# Altium integrated library Linear Technology Power Management Switching Regulator LT1074-LT8705.IntLib: 2252 symbols (part 37 of 148)
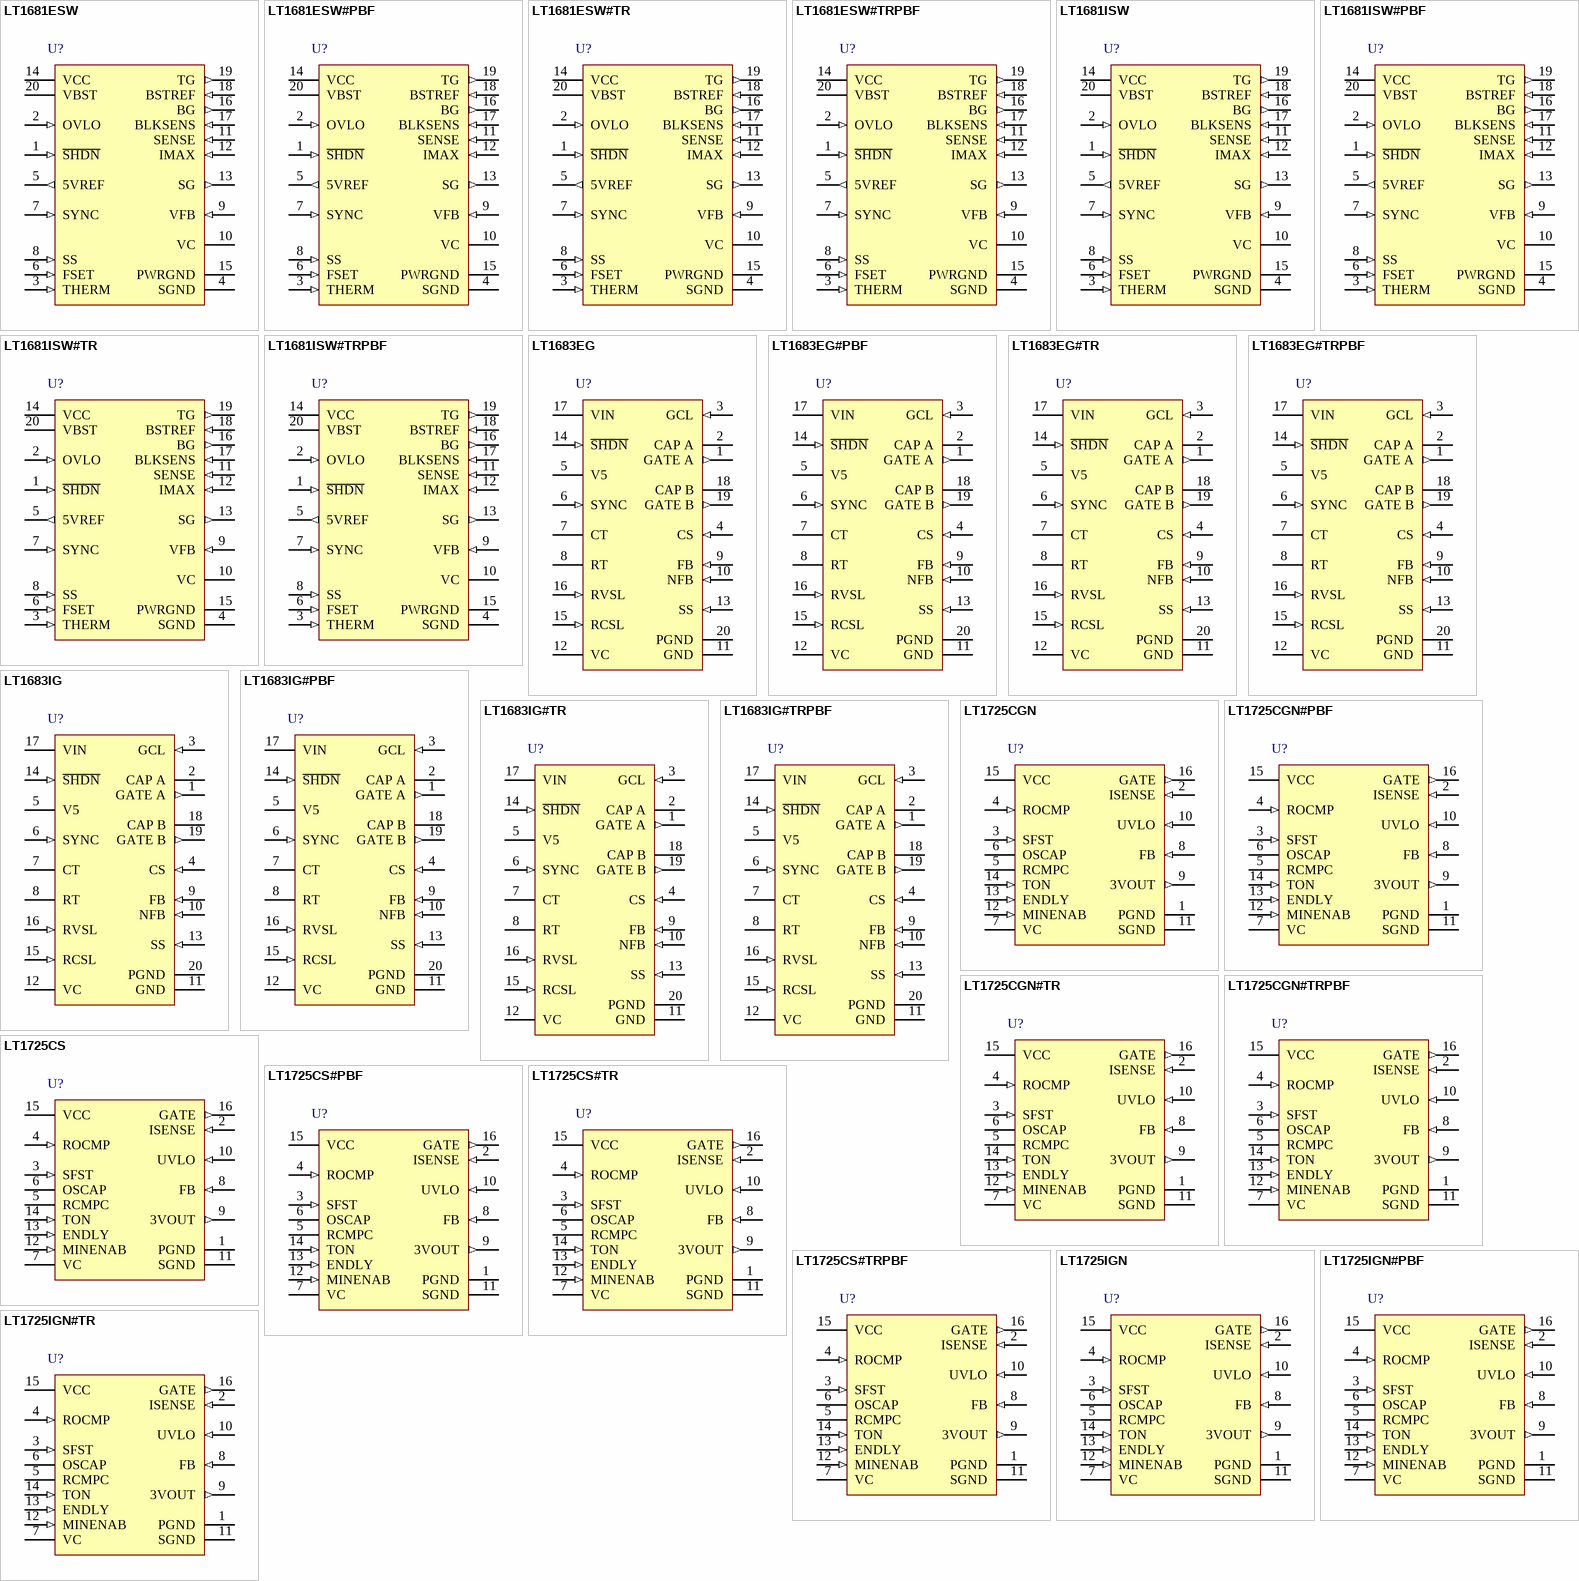
[diagram p107: symbols LT1681ESW to LT1725IGN#TR]

## LT1725CGN#TRPBF
designator U?
General Purpose Isolated Flyback Controller, 16-pin SOP (GN-16), 0 to 100 degC, Pb-Free, Tape and Reel; Manufacturer: Linear Technology; PartNumber: LT1725CGN#TRPBF; Number of Outputs: 1; DatasheetVersion: Rev. A; PackageVersion: Rev. B, 03/2012; PackageReference: GN-16; PackageDescription: 16-Pin Plastic SSOP, Body 4.9 x 3.9 mm, Pitch 0.635 mm; Supplier 1: Digi-Key; Supplier Part Number 1: LT1725CGN#TRPBF-ND; Packing: Tape and Reel; RoHS: TRUE; Mounting Technology: Surface Mount; ComponentLink1Description: Manufacturer URL; ComponentLink1URL: http://www.linear.com/; ComponentLink2Description: Datasheet; ComponentLink2URL: http://cds.linear.com/docs/en/datasheet/1725fa.pdf; ComponentLink3Description: Package Specification; ComponentLink3URL: http://cds.linear.com/docs/en/packaging/05081641_B_GN16.pdf
footprint LT-GN-16_N (SOP, 16-Leads, Body 5x4mm, Pitch 0.635mm, IPC Medium Density)
footprint LT-GN-16_L (SOP, 16-Leads, Body 5x4mm, Pitch 0.635mm, IPC High Density)
footprint LT-GN-16_M (SOP, 16-Leads, Body 5x4mm, Pitch 0.635mm, IPC Low Density)
pins: 1 PGND (power) "The power ground pin carries the GATE node discharge current. This is typically a current spike of several hundred mA with a duration of tens of nanoseconds. It should be connected directly to a good quality ground plane.", 2 ISENSE (in) "Pin to measure switch current with external sense resistor. The sense resistor should be of a noninductive construction as high speed performance is essential. Proper grounding technique is also required to avoid distortion (See Datasheet)", 3 SFST (in) "Pin for optional external capacitor to effect soft-start function. See Applications Information for details.", 4 ROCMP (in) "Input pin for optional external load compensation resistor. Use of this pin allows nominal compensation for nonzero output impedance in the power transformer secondary circuit, including secondary winding impedance, output (See Datasheet)", 5 RCMPC "Pin for external filter capacitor for optional load compensation function. A common 0.1uF ceramic capacitor will suffice for most applications. See Applications Information for further details.", 6 OSCAP "Pin for external timing capacitor to set oscillator switching frequency. See Applications Information for details.", 7 VC "This is the control voltage pin which is the output of the feedback amplifier and the input of the current comparator. Frequency compensation of the overall loop is effected in most cases by placing a capacitor between this (See Datasheet)", 8 FB (in) "Input pin for external “feedback” resistor divider. The ratio of this divider, times the internal bandgap (VBG) reference, times the effective output tothird winding transformer turns ratio is the primary determinant(See Datasheet)", 9 3VOUT (out) "Output pin for nominal 3V reference. This facilitates various user applications. This node is internally current limited for protection and is intended to drive either moderate capacitive loads of several hundred pF or less, (See Datasheet)", 10 UVLO (in), 11 SGND (power) "The signal ground pin is a clean ground. The internal reference, oscillator and feedback amplifier are referred to it. Keep the ground path connection to the FB pin, OSCAP capacitor and the VC compensation capacitor free of (See Datasheet)", 12 MINENAB (in) "Pin for external programming resistor to set minimum enable time. See Applications Information for details.", 13 ENDLY (in) "Pin for external programming resistor to set enable delay time. See Applications Information for details.", 14 TON (in) "Pin for external programming resistor to set switch minimum on time. See Applications Information for details.", 15 VCC (power), 16 GATE (out) "This is the gate drive to the external power MOSFET switch and has large dynamic currents flowing through it. Keep the trace to the MOSFET as short as possible to minimize electromagnetic radiation and voltage spikes. A (See Datasheet)"

## LT1725CS
designator U?
General Purpose Isolated Flyback Controller, 16-pin SOP (S-16), 0 to 100 degC; Manufacturer: Linear Technology; PartNumber: LT1725CS; Number of Outputs: 1; DatasheetVersion: Rev. A; PackageVersion: Rev. G, 05/2012; PackageReference: S-16; PackageDescription: 16-Pin Plastic Small Outline, Body 9.9 x 3.9 mm, Pitch 1.27 mm; Supplier 1: Digi-Key; Supplier Part Number 1: LT1725CS-ND; RoHS: FALSE; Mounting Technology: Surface Mount; ComponentLink1Description: Manufacturer URL; ComponentLink1URL: http://www.linear.com/; ComponentLink2Description: Datasheet; ComponentLink2URL: http://cds.linear.com/docs/en/datasheet/1725fa.pdf; ComponentLink3Description: Package Specification; ComponentLink3URL: http://cds.linear.com/docs/en/packaging/S16%2005-08-1610%20Rev%20G.pdf
footprint LT-S-16_N (SOP, 16-Leads, Body 10x4mm, Pitch 1.27mm, IPC Medium Density)
footprint LT-S-16_L (SOP, 16-Leads, Body 10x4mm, Pitch 1.27mm, IPC High Density)
footprint LT-S-16_M (SOP, 16-Leads, Body 10x4mm, Pitch 1.27mm, IPC Low Density)
pins: 1 PGND (power) "The power ground pin carries the GATE node discharge current. This is typically a current spike of several hundred mA with a duration of tens of nanoseconds. It should be connected directly to a good quality ground plane.", 2 ISENSE (in) "Pin to measure switch current with external sense resistor. The sense resistor should be of a noninductive construction as high speed performance is essential. Proper grounding technique is also required to avoid distortion (See Datasheet)", 3 SFST (in) "Pin for optional external capacitor to effect soft-start function. See Applications Information for details.", 4 ROCMP (in) "Input pin for optional external load compensation resistor. Use of this pin allows nominal compensation for nonzero output impedance in the power transformer secondary circuit, including secondary winding impedance, output (See Datasheet)", 5 RCMPC "Pin for external filter capacitor for optional load compensation function. A common 0.1uF ceramic capacitor will suffice for most applications. See Applications Information for further details.", 6 OSCAP "Pin for external timing capacitor to set oscillator switching frequency. See Applications Information for details.", 7 VC "This is the control voltage pin which is the output of the feedback amplifier and the input of the current comparator. Frequency compensation of the overall loop is effected in most cases by placing a capacitor between this (See Datasheet)", 8 FB (in) "Input pin for external “feedback” resistor divider. The ratio of this divider, times the internal bandgap (VBG) reference, times the effective output tothird winding transformer turns ratio is the primary determinant(See Datasheet)", 9 3VOUT (out) "Output pin for nominal 3V reference. This facilitates various user applications. This node is internally current limited for protection and is intended to drive either moderate capacitive loads of several hundred pF or less, (See Datasheet)", 10 UVLO (in), 11 SGND (power) "The signal ground pin is a clean ground. The internal reference, oscillator and feedback amplifier are referred to it. Keep the ground path connection to the FB pin, OSCAP capacitor and the VC compensation capacitor free of (See Datasheet)", 12 MINENAB (in) "Pin for external programming resistor to set minimum enable time. See Applications Information for details.", 13 ENDLY (in) "Pin for external programming resistor to set enable delay time. See Applications Information for details.", 14 TON (in) "Pin for external programming resistor to set switch minimum on time. See Applications Information for details.", 15 VCC (power), 16 GATE (out) "This is the gate drive to the external power MOSFET switch and has large dynamic currents flowing through it. Keep the trace to the MOSFET as short as possible to minimize electromagnetic radiation and voltage spikes. A (See Datasheet)"

## LT1725CS#PBF
designator U?
General Purpose Isolated Flyback Controller, 16-pin SOP (S-16), 0 to 100 degC, Pb-Free; Manufacturer: Linear Technology; PartNumber: LT1725CS#PBF; Number of Outputs: 1; DatasheetVersion: Rev. A; PackageVersion: Rev. G, 05/2012; PackageReference: S-16; PackageDescription: 16-Pin Plastic Small Outline, Body 9.9 x 3.9 mm, Pitch 1.27 mm; Supplier 1: Digi-Key; Supplier Part Number 1: LT1725CS#PBF-ND; Supplier 2: Farnell; Supplier Part Number 2: 1273780; Supplier 3: Newark; Supplier Part Number 3: 57M5903; RoHS: TRUE; Mounting Technology: Surface Mount; ComponentLink1Description: Manufacturer URL; ComponentLink1URL: http://www.linear.com/; ComponentLink2Description: Datasheet; ComponentLink2URL: http://cds.linear.com/docs/en/datasheet/1725fa.pdf; ComponentLink3Description: Package Specification; ComponentLink3URL: http://cds.linear.com/docs/en/packaging/S16%2005-08-1610%20Rev%20G.pdf
footprint LT-S-16_N (SOP, 16-Leads, Body 10x4mm, Pitch 1.27mm, IPC Medium Density)
footprint LT-S-16_L (SOP, 16-Leads, Body 10x4mm, Pitch 1.27mm, IPC High Density)
footprint LT-S-16_M (SOP, 16-Leads, Body 10x4mm, Pitch 1.27mm, IPC Low Density)
pins: 1 PGND (power) "The power ground pin carries the GATE node discharge current. This is typically a current spike of several hundred mA with a duration of tens of nanoseconds. It should be connected directly to a good quality ground plane.", 2 ISENSE (in) "Pin to measure switch current with external sense resistor. The sense resistor should be of a noninductive construction as high speed performance is essential. Proper grounding technique is also required to avoid distortion (See Datasheet)", 3 SFST (in) "Pin for optional external capacitor to effect soft-start function. See Applications Information for details.", 4 ROCMP (in) "Input pin for optional external load compensation resistor. Use of this pin allows nominal compensation for nonzero output impedance in the power transformer secondary circuit, including secondary winding impedance, output (See Datasheet)", 5 RCMPC "Pin for external filter capacitor for optional load compensation function. A common 0.1uF ceramic capacitor will suffice for most applications. See Applications Information for further details.", 6 OSCAP "Pin for external timing capacitor to set oscillator switching frequency. See Applications Information for details.", 7 VC "This is the control voltage pin which is the output of the feedback amplifier and the input of the current comparator. Frequency compensation of the overall loop is effected in most cases by placing a capacitor between this (See Datasheet)", 8 FB (in) "Input pin for external “feedback” resistor divider. The ratio of this divider, times the internal bandgap (VBG) reference, times the effective output tothird winding transformer turns ratio is the primary determinant(See Datasheet)", 9 3VOUT (out) "Output pin for nominal 3V reference. This facilitates various user applications. This node is internally current limited for protection and is intended to drive either moderate capacitive loads of several hundred pF or less, (See Datasheet)", 10 UVLO (in), 11 SGND (power) "The signal ground pin is a clean ground. The internal reference, oscillator and feedback amplifier are referred to it. Keep the ground path connection to the FB pin, OSCAP capacitor and the VC compensation capacitor free of (See Datasheet)", 12 MINENAB (in) "Pin for external programming resistor to set minimum enable time. See Applications Information for details.", 13 ENDLY (in) "Pin for external programming resistor to set enable delay time. See Applications Information for details.", 14 TON (in) "Pin for external programming resistor to set switch minimum on time. See Applications Information for details.", 15 VCC (power), 16 GATE (out) "This is the gate drive to the external power MOSFET switch and has large dynamic currents flowing through it. Keep the trace to the MOSFET as short as possible to minimize electromagnetic radiation and voltage spikes. A (See Datasheet)"

## LT1725CS#TR
designator U?
General Purpose Isolated Flyback Controller, 16-pin SOP (S-16), 0 to 100 degC, Tape and Reel; Manufacturer: Linear Technology; PartNumber: LT1725CS#TR; Number of Outputs: 1; DatasheetVersion: Rev. A; PackageVersion: Rev. G, 05/2012; PackageReference: S-16; PackageDescription: 16-Pin Plastic Small Outline, Body 9.9 x 3.9 mm, Pitch 1.27 mm; Supplier 1: Digi-Key; Supplier Part Number 1: LT1725CS#TR-ND; Packing: Tape and Reel; RoHS: FALSE; Mounting Technology: Surface Mount; ComponentLink1Description: Manufacturer URL; ComponentLink1URL: http://www.linear.com/; ComponentLink2Description: Datasheet; ComponentLink2URL: http://cds.linear.com/docs/en/datasheet/1725fa.pdf; ComponentLink3Description: Package Specification; ComponentLink3URL: http://cds.linear.com/docs/en/packaging/S16%2005-08-1610%20Rev%20G.pdf
footprint LT-S-16_N (SOP, 16-Leads, Body 10x4mm, Pitch 1.27mm, IPC Medium Density)
footprint LT-S-16_L (SOP, 16-Leads, Body 10x4mm, Pitch 1.27mm, IPC High Density)
footprint LT-S-16_M (SOP, 16-Leads, Body 10x4mm, Pitch 1.27mm, IPC Low Density)
pins: 1 PGND (power) "The power ground pin carries the GATE node discharge current. This is typically a current spike of several hundred mA with a duration of tens of nanoseconds. It should be connected directly to a good quality ground plane.", 2 ISENSE (in) "Pin to measure switch current with external sense resistor. The sense resistor should be of a noninductive construction as high speed performance is essential. Proper grounding technique is also required to avoid distortion (See Datasheet)", 3 SFST (in) "Pin for optional external capacitor to effect soft-start function. See Applications Information for details.", 4 ROCMP (in) "Input pin for optional external load compensation resistor. Use of this pin allows nominal compensation for nonzero output impedance in the power transformer secondary circuit, including secondary winding impedance, output (See Datasheet)", 5 RCMPC "Pin for external filter capacitor for optional load compensation function. A common 0.1uF ceramic capacitor will suffice for most applications. See Applications Information for further details.", 6 OSCAP "Pin for external timing capacitor to set oscillator switching frequency. See Applications Information for details.", 7 VC "This is the control voltage pin which is the output of the feedback amplifier and the input of the current comparator. Frequency compensation of the overall loop is effected in most cases by placing a capacitor between this (See Datasheet)", 8 FB (in) "Input pin for external “feedback” resistor divider. The ratio of this divider, times the internal bandgap (VBG) reference, times the effective output tothird winding transformer turns ratio is the primary determinant(See Datasheet)", 9 3VOUT (out) "Output pin for nominal 3V reference. This facilitates various user applications. This node is internally current limited for protection and is intended to drive either moderate capacitive loads of several hundred pF or less, (See Datasheet)", 10 UVLO (in), 11 SGND (power) "The signal ground pin is a clean ground. The internal reference, oscillator and feedback amplifier are referred to it. Keep the ground path connection to the FB pin, OSCAP capacitor and the VC compensation capacitor free of (See Datasheet)", 12 MINENAB (in) "Pin for external programming resistor to set minimum enable time. See Applications Information for details.", 13 ENDLY (in) "Pin for external programming resistor to set enable delay time. See Applications Information for details.", 14 TON (in) "Pin for external programming resistor to set switch minimum on time. See Applications Information for details.", 15 VCC (power), 16 GATE (out) "This is the gate drive to the external power MOSFET switch and has large dynamic currents flowing through it. Keep the trace to the MOSFET as short as possible to minimize electromagnetic radiation and voltage spikes. A (See Datasheet)"

## LT1725CS#TRPBF
designator U?
General Purpose Isolated Flyback Controller, 16-pin SOP (S-16), 0 to 100 degC, Pb-Free, Tape and Reel; Manufacturer: Linear Technology; PartNumber: LT1725CS#TRPBF; Number of Outputs: 1; DatasheetVersion: Rev. A; PackageVersion: Rev. G, 05/2012; PackageReference: S-16; PackageDescription: 16-Pin Plastic Small Outline, Body 9.9 x 3.9 mm, Pitch 1.27 mm; Supplier 1: Digi-Key; Supplier Part Number 1: LT1725CS#TRPBF-ND; Packing: Tape and Reel; RoHS: TRUE; Mounting Technology: Surface Mount; ComponentLink1Description: Manufacturer URL; ComponentLink1URL: http://www.linear.com/; ComponentLink2Description: Datasheet; ComponentLink2URL: http://cds.linear.com/docs/en/datasheet/1725fa.pdf; ComponentLink3Description: Package Specification; ComponentLink3URL: http://cds.linear.com/docs/en/packaging/S16%2005-08-1610%20Rev%20G.pdf
footprint LT-S-16_N (SOP, 16-Leads, Body 10x4mm, Pitch 1.27mm, IPC Medium Density)
footprint LT-S-16_L (SOP, 16-Leads, Body 10x4mm, Pitch 1.27mm, IPC High Density)
footprint LT-S-16_M (SOP, 16-Leads, Body 10x4mm, Pitch 1.27mm, IPC Low Density)
pins: 1 PGND (power) "The power ground pin carries the GATE node discharge current. This is typically a current spike of several hundred mA with a duration of tens of nanoseconds. It should be connected directly to a good quality ground plane.", 2 ISENSE (in) "Pin to measure switch current with external sense resistor. The sense resistor should be of a noninductive construction as high speed performance is essential. Proper grounding technique is also required to avoid distortion (See Datasheet)", 3 SFST (in) "Pin for optional external capacitor to effect soft-start function. See Applications Information for details.", 4 ROCMP (in) "Input pin for optional external load compensation resistor. Use of this pin allows nominal compensation for nonzero output impedance in the power transformer secondary circuit, including secondary winding impedance, output (See Datasheet)", 5 RCMPC "Pin for external filter capacitor for optional load compensation function. A common 0.1uF ceramic capacitor will suffice for most applications. See Applications Information for further details.", 6 OSCAP "Pin for external timing capacitor to set oscillator switching frequency. See Applications Information for details.", 7 VC "This is the control voltage pin which is the output of the feedback amplifier and the input of the current comparator. Frequency compensation of the overall loop is effected in most cases by placing a capacitor between this (See Datasheet)", 8 FB (in) "Input pin for external “feedback” resistor divider. The ratio of this divider, times the internal bandgap (VBG) reference, times the effective output tothird winding transformer turns ratio is the primary determinant(See Datasheet)", 9 3VOUT (out) "Output pin for nominal 3V reference. This facilitates various user applications. This node is internally current limited for protection and is intended to drive either moderate capacitive loads of several hundred pF or less, (See Datasheet)", 10 UVLO (in), 11 SGND (power) "The signal ground pin is a clean ground. The internal reference, oscillator and feedback amplifier are referred to it. Keep the ground path connection to the FB pin, OSCAP capacitor and the VC compensation capacitor free of (See Datasheet)", 12 MINENAB (in) "Pin for external programming resistor to set minimum enable time. See Applications Information for details.", 13 ENDLY (in) "Pin for external programming resistor to set enable delay time. See Applications Information for details.", 14 TON (in) "Pin for external programming resistor to set switch minimum on time. See Applications Information for details.", 15 VCC (power), 16 GATE (out) "This is the gate drive to the external power MOSFET switch and has large dynamic currents flowing through it. Keep the trace to the MOSFET as short as possible to minimize electromagnetic radiation and voltage spikes. A (See Datasheet)"

## LT1725IGN
designator U?
General Purpose Isolated Flyback Controller, 16-pin SOP (GN-16), -40 to 125 degC; Manufacturer: Linear Technology; PartNumber: LT1725IGN; Number of Outputs: 1; DatasheetVersion: Rev. A; PackageVersion: Rev. B, 03/2012; PackageReference: GN-16; PackageDescription: 16-Pin Plastic SSOP, Body 4.9 x 3.9 mm, Pitch 0.635 mm; Supplier 1: Digi-Key; Supplier Part Number 1: LT1725IGN-ND; RoHS: FALSE; Mounting Technology: Surface Mount; ComponentLink1Description: Manufacturer URL; ComponentLink1URL: http://www.linear.com/; ComponentLink2Description: Datasheet; ComponentLink2URL: http://cds.linear.com/docs/en/datasheet/1725fa.pdf; ComponentLink3Description: Package Specification; ComponentLink3URL: http://cds.linear.com/docs/en/packaging/05081641_B_GN16.pdf
footprint LT-GN-16_N (SOP, 16-Leads, Body 5x4mm, Pitch 0.635mm, IPC Medium Density)
footprint LT-GN-16_L (SOP, 16-Leads, Body 5x4mm, Pitch 0.635mm, IPC High Density)
footprint LT-GN-16_M (SOP, 16-Leads, Body 5x4mm, Pitch 0.635mm, IPC Low Density)
pins: 1 PGND (power) "The power ground pin carries the GATE node discharge current. This is typically a current spike of several hundred mA with a duration of tens of nanoseconds. It should be connected directly to a good quality ground plane.", 2 ISENSE (in) "Pin to measure switch current with external sense resistor. The sense resistor should be of a noninductive construction as high speed performance is essential. Proper grounding technique is also required to avoid distortion (See Datasheet)", 3 SFST (in) "Pin for optional external capacitor to effect soft-start function. See Applications Information for details.", 4 ROCMP (in) "Input pin for optional external load compensation resistor. Use of this pin allows nominal compensation for nonzero output impedance in the power transformer secondary circuit, including secondary winding impedance, output (See Datasheet)", 5 RCMPC "Pin for external filter capacitor for optional load compensation function. A common 0.1uF ceramic capacitor will suffice for most applications. See Applications Information for further details.", 6 OSCAP "Pin for external timing capacitor to set oscillator switching frequency. See Applications Information for details.", 7 VC "This is the control voltage pin which is the output of the feedback amplifier and the input of the current comparator. Frequency compensation of the overall loop is effected in most cases by placing a capacitor between this (See Datasheet)", 8 FB (in) "Input pin for external “feedback” resistor divider. The ratio of this divider, times the internal bandgap (VBG) reference, times the effective output tothird winding transformer turns ratio is the primary determinant(See Datasheet)", 9 3VOUT (out) "Output pin for nominal 3V reference. This facilitates various user applications. This node is internally current limited for protection and is intended to drive either moderate capacitive loads of several hundred pF or less, (See Datasheet)", 10 UVLO (in), 11 SGND (power) "The signal ground pin is a clean ground. The internal reference, oscillator and feedback amplifier are referred to it. Keep the ground path connection to the FB pin, OSCAP capacitor and the VC compensation capacitor free of (See Datasheet)", 12 MINENAB (in) "Pin for external programming resistor to set minimum enable time. See Applications Information for details.", 13 ENDLY (in) "Pin for external programming resistor to set enable delay time. See Applications Information for details.", 14 TON (in) "Pin for external programming resistor to set switch minimum on time. See Applications Information for details.", 15 VCC (power), 16 GATE (out) "This is the gate drive to the external power MOSFET switch and has large dynamic currents flowing through it. Keep the trace to the MOSFET as short as possible to minimize electromagnetic radiation and voltage spikes. A (See Datasheet)"

## LT1725IGN#PBF
designator U?
General Purpose Isolated Flyback Controller, 16-pin SOP (GN-16), -40 to 125 degC, Pb-Free; Manufacturer: Linear Technology; PartNumber: LT1725IGN#PBF; Number of Outputs: 1; DatasheetVersion: Rev. A; PackageVersion: Rev. B, 03/2012; PackageReference: GN-16; PackageDescription: 16-Pin Plastic SSOP, Body 4.9 x 3.9 mm, Pitch 0.635 mm; Supplier 1: Digi-Key; Supplier Part Number 1: LT1725IGN#PBF-ND; Supplier 2: Newark; Supplier Part Number 2: 57M5907; RoHS: TRUE; Mounting Technology: Surface Mount; ComponentLink1Description: Manufacturer URL; ComponentLink1URL: http://www.linear.com/; ComponentLink2Description: Datasheet; ComponentLink2URL: http://cds.linear.com/docs/en/datasheet/1725fa.pdf; ComponentLink3Description: Package Specification; ComponentLink3URL: http://cds.linear.com/docs/en/packaging/05081641_B_GN16.pdf
footprint LT-GN-16_N (SOP, 16-Leads, Body 5x4mm, Pitch 0.635mm, IPC Medium Density)
footprint LT-GN-16_L (SOP, 16-Leads, Body 5x4mm, Pitch 0.635mm, IPC High Density)
footprint LT-GN-16_M (SOP, 16-Leads, Body 5x4mm, Pitch 0.635mm, IPC Low Density)
pins: 1 PGND (power) "The power ground pin carries the GATE node discharge current. This is typically a current spike of several hundred mA with a duration of tens of nanoseconds. It should be connected directly to a good quality ground plane.", 2 ISENSE (in) "Pin to measure switch current with external sense resistor. The sense resistor should be of a noninductive construction as high speed performance is essential. Proper grounding technique is also required to avoid distortion (See Datasheet)", 3 SFST (in) "Pin for optional external capacitor to effect soft-start function. See Applications Information for details.", 4 ROCMP (in) "Input pin for optional external load compensation resistor. Use of this pin allows nominal compensation for nonzero output impedance in the power transformer secondary circuit, including secondary winding impedance, output (See Datasheet)", 5 RCMPC "Pin for external filter capacitor for optional load compensation function. A common 0.1uF ceramic capacitor will suffice for most applications. See Applications Information for further details.", 6 OSCAP "Pin for external timing capacitor to set oscillator switching frequency. See Applications Information for details.", 7 VC "This is the control voltage pin which is the output of the feedback amplifier and the input of the current comparator. Frequency compensation of the overall loop is effected in most cases by placing a capacitor between this (See Datasheet)", 8 FB (in) "Input pin for external “feedback” resistor divider. The ratio of this divider, times the internal bandgap (VBG) reference, times the effective output tothird winding transformer turns ratio is the primary determinant(See Datasheet)", 9 3VOUT (out) "Output pin for nominal 3V reference. This facilitates various user applications. This node is internally current limited for protection and is intended to drive either moderate capacitive loads of several hundred pF or less, (See Datasheet)", 10 UVLO (in), 11 SGND (power) "The signal ground pin is a clean ground. The internal reference, oscillator and feedback amplifier are referred to it. Keep the ground path connection to the FB pin, OSCAP capacitor and the VC compensation capacitor free of (See Datasheet)", 12 MINENAB (in) "Pin for external programming resistor to set minimum enable time. See Applications Information for details.", 13 ENDLY (in) "Pin for external programming resistor to set enable delay time. See Applications Information for details.", 14 TON (in) "Pin for external programming resistor to set switch minimum on time. See Applications Information for details.", 15 VCC (power), 16 GATE (out) "This is the gate drive to the external power MOSFET switch and has large dynamic currents flowing through it. Keep the trace to the MOSFET as short as possible to minimize electromagnetic radiation and voltage spikes. A (See Datasheet)"

## LT1725IGN#TR
designator U?
General Purpose Isolated Flyback Controller, 16-pin SOP (GN-16), -40 to 125 degC, Tape and Reel; Manufacturer: Linear Technology; PartNumber: LT1725IGN#TR; Number of Outputs: 1; DatasheetVersion: Rev. A; PackageVersion: Rev. B, 03/2012; PackageReference: GN-16; PackageDescription: 16-Pin Plastic SSOP, Body 4.9 x 3.9 mm, Pitch 0.635 mm; Supplier 1: Digi-Key; Supplier Part Number 1: LT1725IGNTR-ND; Packing: Tape and Reel; RoHS: FALSE; Mounting Technology: Surface Mount; ComponentLink1Description: Manufacturer URL; ComponentLink1URL: http://www.linear.com/; ComponentLink2Description: Datasheet; ComponentLink2URL: http://cds.linear.com/docs/en/datasheet/1725fa.pdf; ComponentLink3Description: Package Specification; ComponentLink3URL: http://cds.linear.com/docs/en/packaging/05081641_B_GN16.pdf
footprint LT-GN-16_N (SOP, 16-Leads, Body 5x4mm, Pitch 0.635mm, IPC Medium Density)
footprint LT-GN-16_L (SOP, 16-Leads, Body 5x4mm, Pitch 0.635mm, IPC High Density)
footprint LT-GN-16_M (SOP, 16-Leads, Body 5x4mm, Pitch 0.635mm, IPC Low Density)
pins: 1 PGND (power) "The power ground pin carries the GATE node discharge current. This is typically a current spike of several hundred mA with a duration of tens of nanoseconds. It should be connected directly to a good quality ground plane.", 2 ISENSE (in) "Pin to measure switch current with external sense resistor. The sense resistor should be of a noninductive construction as high speed performance is essential. Proper grounding technique is also required to avoid distortion (See Datasheet)", 3 SFST (in) "Pin for optional external capacitor to effect soft-start function. See Applications Information for details.", 4 ROCMP (in) "Input pin for optional external load compensation resistor. Use of this pin allows nominal compensation for nonzero output impedance in the power transformer secondary circuit, including secondary winding impedance, output (See Datasheet)", 5 RCMPC "Pin for external filter capacitor for optional load compensation function. A common 0.1uF ceramic capacitor will suffice for most applications. See Applications Information for further details.", 6 OSCAP "Pin for external timing capacitor to set oscillator switching frequency. See Applications Information for details.", 7 VC "This is the control voltage pin which is the output of the feedback amplifier and the input of the current comparator. Frequency compensation of the overall loop is effected in most cases by placing a capacitor between this (See Datasheet)", 8 FB (in) "Input pin for external “feedback” resistor divider. The ratio of this divider, times the internal bandgap (VBG) reference, times the effective output tothird winding transformer turns ratio is the primary determinant(See Datasheet)", 9 3VOUT (out) "Output pin for nominal 3V reference. This facilitates various user applications. This node is internally current limited for protection and is intended to drive either moderate capacitive loads of several hundred pF or less, (See Datasheet)", 10 UVLO (in), 11 SGND (power) "The signal ground pin is a clean ground. The internal reference, oscillator and feedback amplifier are referred to it. Keep the ground path connection to the FB pin, OSCAP capacitor and the VC compensation capacitor free of (See Datasheet)", 12 MINENAB (in) "Pin for external programming resistor to set minimum enable time. See Applications Information for details.", 13 ENDLY (in) "Pin for external programming resistor to set enable delay time. See Applications Information for details.", 14 TON (in) "Pin for external programming resistor to set switch minimum on time. See Applications Information for details.", 15 VCC (power), 16 GATE (out) "This is the gate drive to the external power MOSFET switch and has large dynamic currents flowing through it. Keep the trace to the MOSFET as short as possible to minimize electromagnetic radiation and voltage spikes. A (See Datasheet)"

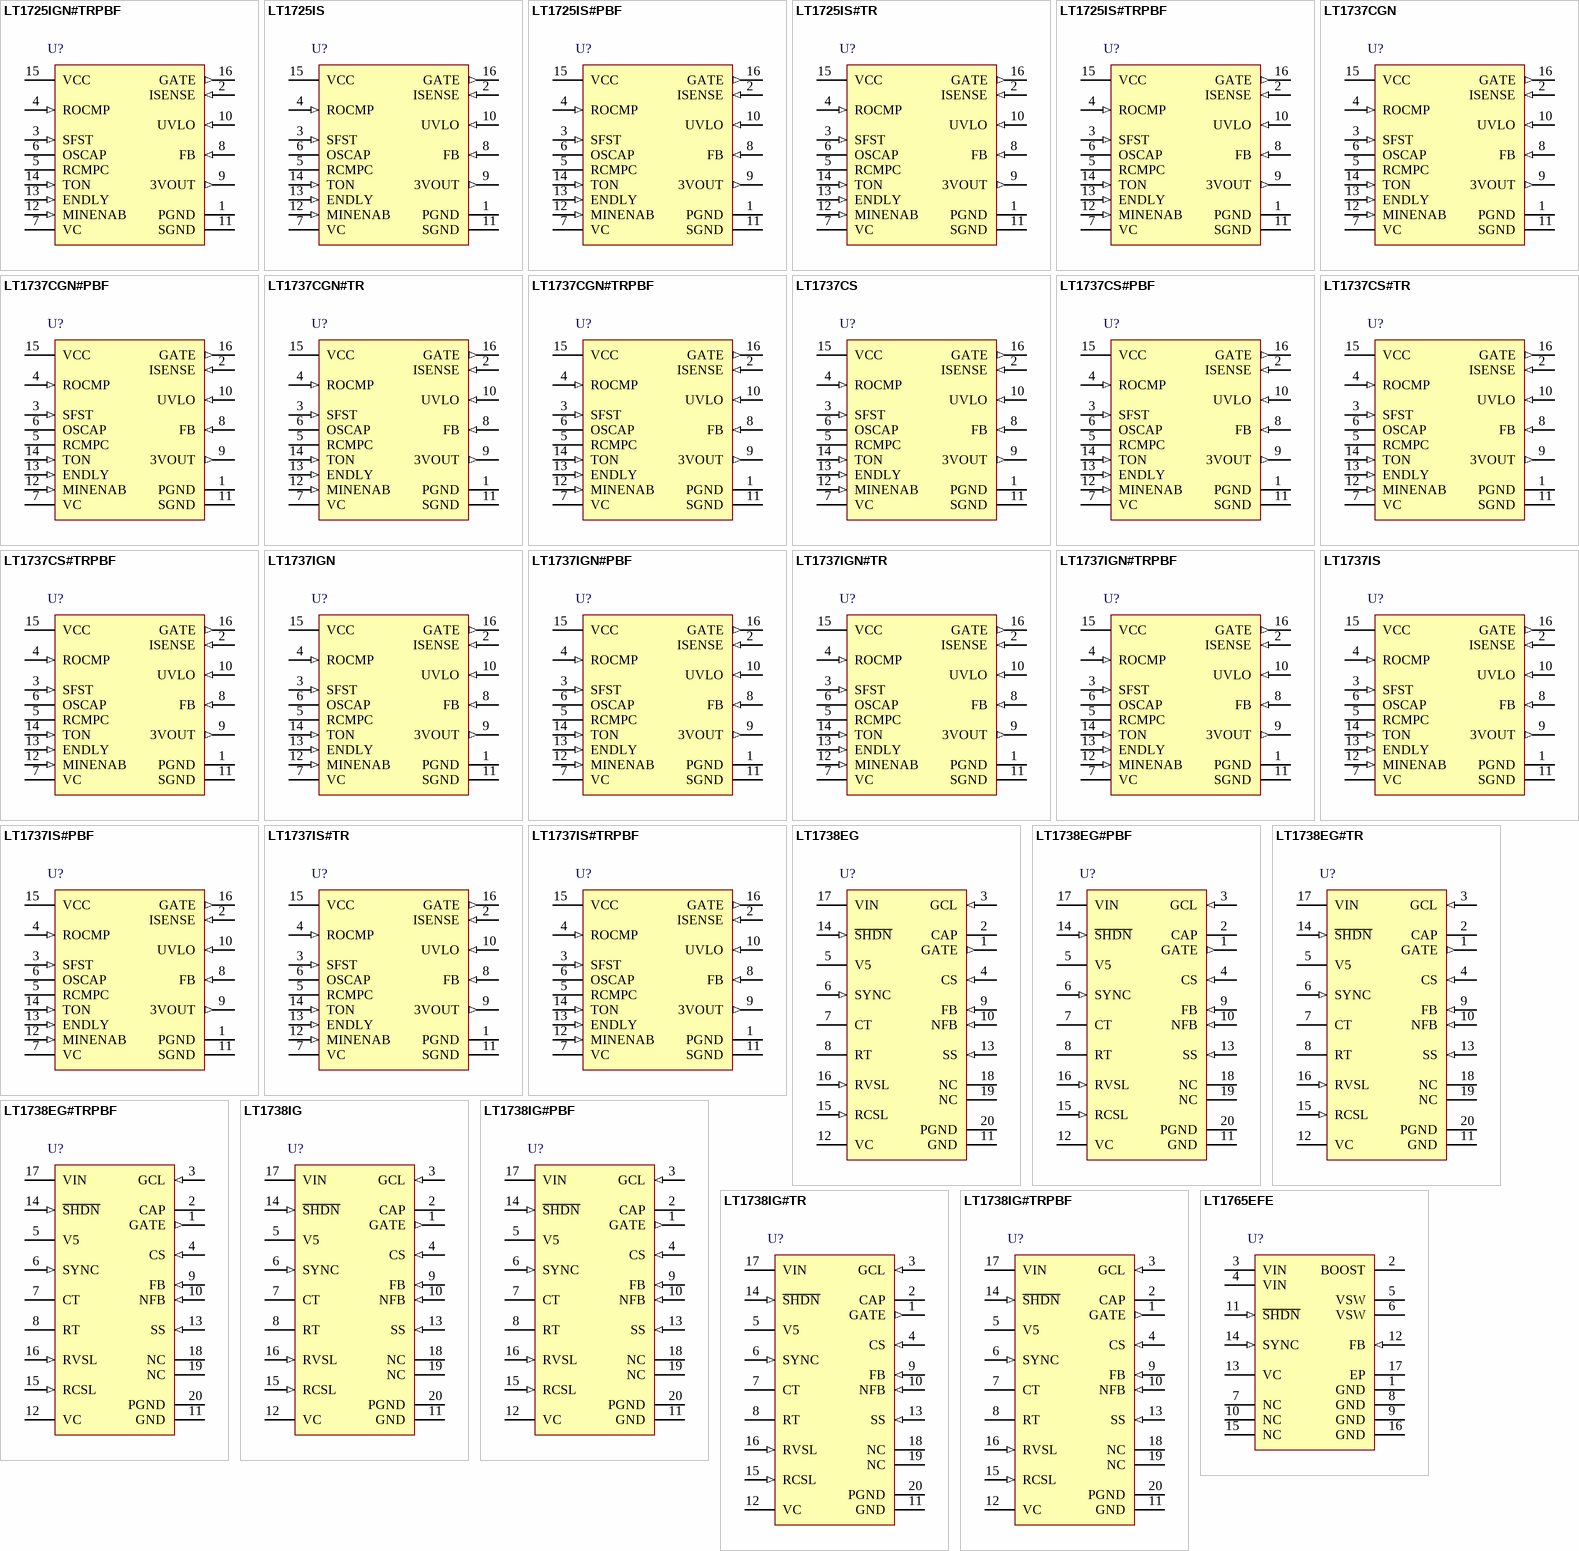
[diagram p20: symbols LT1725IGN#TRPBF to LT1765EFE]

## LT1725IGN#TRPBF
designator U?
General Purpose Isolated Flyback Controller, 16-pin SOP (GN-16), -40 to 125 degC, Pb-Free, Tape and Reel; Manufacturer: Linear Technology; PartNumber: LT1725IGN#TRPBF; Number of Outputs: 1; DatasheetVersion: Rev. A; PackageVersion: Rev. B, 03/2012; PackageReference: GN-16; PackageDescription: 16-Pin Plastic SSOP, Body 4.9 x 3.9 mm, Pitch 0.635 mm; Supplier 1: Digi-Key; Supplier Part Number 1: LT1725IGN#TRPBF-ND; Packing: Tape and Reel; RoHS: TRUE; Mounting Technology: Surface Mount; ComponentLink1Description: Manufacturer URL; ComponentLink1URL: http://www.linear.com/; ComponentLink2Description: Datasheet; ComponentLink2URL: http://cds.linear.com/docs/en/datasheet/1725fa.pdf; ComponentLink3Description: Package Specification; ComponentLink3URL: http://cds.linear.com/docs/en/packaging/05081641_B_GN16.pdf
footprint LT-GN-16_N (SOP, 16-Leads, Body 5x4mm, Pitch 0.635mm, IPC Medium Density)
footprint LT-GN-16_L (SOP, 16-Leads, Body 5x4mm, Pitch 0.635mm, IPC High Density)
footprint LT-GN-16_M (SOP, 16-Leads, Body 5x4mm, Pitch 0.635mm, IPC Low Density)
pins: 1 PGND (power) "The power ground pin carries the GATE node discharge current. This is typically a current spike of several hundred mA with a duration of tens of nanoseconds. It should be connected directly to a good quality ground plane.", 2 ISENSE (in) "Pin to measure switch current with external sense resistor. The sense resistor should be of a noninductive construction as high speed performance is essential. Proper grounding technique is also required to avoid distortion (See Datasheet)", 3 SFST (in) "Pin for optional external capacitor to effect soft-start function. See Applications Information for details.", 4 ROCMP (in) "Input pin for optional external load compensation resistor. Use of this pin allows nominal compensation for nonzero output impedance in the power transformer secondary circuit, including secondary winding impedance, output (See Datasheet)", 5 RCMPC "Pin for external filter capacitor for optional load compensation function. A common 0.1uF ceramic capacitor will suffice for most applications. See Applications Information for further details.", 6 OSCAP "Pin for external timing capacitor to set oscillator switching frequency. See Applications Information for details.", 7 VC "This is the control voltage pin which is the output of the feedback amplifier and the input of the current comparator. Frequency compensation of the overall loop is effected in most cases by placing a capacitor between this (See Datasheet)", 8 FB (in) "Input pin for external “feedback” resistor divider. The ratio of this divider, times the internal bandgap (VBG) reference, times the effective output tothird winding transformer turns ratio is the primary determinant(See Datasheet)", 9 3VOUT (out) "Output pin for nominal 3V reference. This facilitates various user applications. This node is internally current limited for protection and is intended to drive either moderate capacitive loads of several hundred pF or less, (See Datasheet)", 10 UVLO (in), 11 SGND (power) "The signal ground pin is a clean ground. The internal reference, oscillator and feedback amplifier are referred to it. Keep the ground path connection to the FB pin, OSCAP capacitor and the VC compensation capacitor free of (See Datasheet)", 12 MINENAB (in) "Pin for external programming resistor to set minimum enable time. See Applications Information for details.", 13 ENDLY (in) "Pin for external programming resistor to set enable delay time. See Applications Information for details.", 14 TON (in) "Pin for external programming resistor to set switch minimum on time. See Applications Information for details.", 15 VCC (power), 16 GATE (out) "This is the gate drive to the external power MOSFET switch and has large dynamic currents flowing through it. Keep the trace to the MOSFET as short as possible to minimize electromagnetic radiation and voltage spikes. A (See Datasheet)"

## LT1725IS
designator U?
General Purpose Isolated Flyback Controller, 16-pin SOP (S-16), -40 to 125 degC; Manufacturer: Linear Technology; PartNumber: LT1725IS; Number of Outputs: 1; DatasheetVersion: Rev. A; PackageVersion: Rev. G, 05/2012; PackageReference: S-16; PackageDescription: 16-Pin Plastic Small Outline, Body 9.9 x 3.9 mm, Pitch 1.27 mm; Supplier 1: Digi-Key; Supplier Part Number 1: LT1725IS-ND; RoHS: FALSE; Mounting Technology: Surface Mount; ComponentLink1Description: Manufacturer URL; ComponentLink1URL: http://www.linear.com/; ComponentLink2Description: Datasheet; ComponentLink2URL: http://cds.linear.com/docs/en/datasheet/1725fa.pdf; ComponentLink3Description: Package Specification; ComponentLink3URL: http://cds.linear.com/docs/en/packaging/S16%2005-08-1610%20Rev%20G.pdf
footprint LT-S-16_N (SOP, 16-Leads, Body 10x4mm, Pitch 1.27mm, IPC Medium Density)
footprint LT-S-16_L (SOP, 16-Leads, Body 10x4mm, Pitch 1.27mm, IPC High Density)
footprint LT-S-16_M (SOP, 16-Leads, Body 10x4mm, Pitch 1.27mm, IPC Low Density)
pins: 1 PGND (power) "The power ground pin carries the GATE node discharge current. This is typically a current spike of several hundred mA with a duration of tens of nanoseconds. It should be connected directly to a good quality ground plane.", 2 ISENSE (in) "Pin to measure switch current with external sense resistor. The sense resistor should be of a noninductive construction as high speed performance is essential. Proper grounding technique is also required to avoid distortion (See Datasheet)", 3 SFST (in) "Pin for optional external capacitor to effect soft-start function. See Applications Information for details.", 4 ROCMP (in) "Input pin for optional external load compensation resistor. Use of this pin allows nominal compensation for nonzero output impedance in the power transformer secondary circuit, including secondary winding impedance, output (See Datasheet)", 5 RCMPC "Pin for external filter capacitor for optional load compensation function. A common 0.1uF ceramic capacitor will suffice for most applications. See Applications Information for further details.", 6 OSCAP "Pin for external timing capacitor to set oscillator switching frequency. See Applications Information for details.", 7 VC "This is the control voltage pin which is the output of the feedback amplifier and the input of the current comparator. Frequency compensation of the overall loop is effected in most cases by placing a capacitor between this (See Datasheet)", 8 FB (in) "Input pin for external “feedback” resistor divider. The ratio of this divider, times the internal bandgap (VBG) reference, times the effective output tothird winding transformer turns ratio is the primary determinant(See Datasheet)", 9 3VOUT (out) "Output pin for nominal 3V reference. This facilitates various user applications. This node is internally current limited for protection and is intended to drive either moderate capacitive loads of several hundred pF or less, (See Datasheet)", 10 UVLO (in), 11 SGND (power) "The signal ground pin is a clean ground. The internal reference, oscillator and feedback amplifier are referred to it. Keep the ground path connection to the FB pin, OSCAP capacitor and the VC compensation capacitor free of (See Datasheet)", 12 MINENAB (in) "Pin for external programming resistor to set minimum enable time. See Applications Information for details.", 13 ENDLY (in) "Pin for external programming resistor to set enable delay time. See Applications Information for details.", 14 TON (in) "Pin for external programming resistor to set switch minimum on time. See Applications Information for details.", 15 VCC (power), 16 GATE (out) "This is the gate drive to the external power MOSFET switch and has large dynamic currents flowing through it. Keep the trace to the MOSFET as short as possible to minimize electromagnetic radiation and voltage spikes. A (See Datasheet)"

## LT1725IS#PBF
designator U?
General Purpose Isolated Flyback Controller, 16-pin SOP (S-16), -40 to 125 degC, Pb-Free; Manufacturer: Linear Technology; PartNumber: LT1725IS#PBF; Number of Outputs: 1; DatasheetVersion: Rev. A; PackageVersion: Rev. G, 05/2012; PackageReference: S-16; PackageDescription: 16-Pin Plastic Small Outline, Body 9.9 x 3.9 mm, Pitch 1.27 mm; Supplier 1: Digi-Key; Supplier Part Number 1: LT1725IS#PBF-ND; Supplier 2: Farnell; Supplier Part Number 2: 1663477; Supplier 3: Newark; Supplier Part Number 3: 57M5911; RoHS: TRUE; Mounting Technology: Surface Mount; ComponentLink1Description: Manufacturer URL; ComponentLink1URL: http://www.linear.com/; ComponentLink2Description: Datasheet; ComponentLink2URL: http://cds.linear.com/docs/en/datasheet/1725fa.pdf; ComponentLink3Description: Package Specification; ComponentLink3URL: http://cds.linear.com/docs/en/packaging/S16%2005-08-1610%20Rev%20G.pdf
footprint LT-S-16_N (SOP, 16-Leads, Body 10x4mm, Pitch 1.27mm, IPC Medium Density)
footprint LT-S-16_L (SOP, 16-Leads, Body 10x4mm, Pitch 1.27mm, IPC High Density)
footprint LT-S-16_M (SOP, 16-Leads, Body 10x4mm, Pitch 1.27mm, IPC Low Density)
pins: 1 PGND (power) "The power ground pin carries the GATE node discharge current. This is typically a current spike of several hundred mA with a duration of tens of nanoseconds. It should be connected directly to a good quality ground plane.", 2 ISENSE (in) "Pin to measure switch current with external sense resistor. The sense resistor should be of a noninductive construction as high speed performance is essential. Proper grounding technique is also required to avoid distortion (See Datasheet)", 3 SFST (in) "Pin for optional external capacitor to effect soft-start function. See Applications Information for details.", 4 ROCMP (in) "Input pin for optional external load compensation resistor. Use of this pin allows nominal compensation for nonzero output impedance in the power transformer secondary circuit, including secondary winding impedance, output (See Datasheet)", 5 RCMPC "Pin for external filter capacitor for optional load compensation function. A common 0.1uF ceramic capacitor will suffice for most applications. See Applications Information for further details.", 6 OSCAP "Pin for external timing capacitor to set oscillator switching frequency. See Applications Information for details.", 7 VC "This is the control voltage pin which is the output of the feedback amplifier and the input of the current comparator. Frequency compensation of the overall loop is effected in most cases by placing a capacitor between this (See Datasheet)", 8 FB (in) "Input pin for external “feedback” resistor divider. The ratio of this divider, times the internal bandgap (VBG) reference, times the effective output tothird winding transformer turns ratio is the primary determinant(See Datasheet)", 9 3VOUT (out) "Output pin for nominal 3V reference. This facilitates various user applications. This node is internally current limited for protection and is intended to drive either moderate capacitive loads of several hundred pF or less, (See Datasheet)", 10 UVLO (in), 11 SGND (power) "The signal ground pin is a clean ground. The internal reference, oscillator and feedback amplifier are referred to it. Keep the ground path connection to the FB pin, OSCAP capacitor and the VC compensation capacitor free of (See Datasheet)", 12 MINENAB (in) "Pin for external programming resistor to set minimum enable time. See Applications Information for details.", 13 ENDLY (in) "Pin for external programming resistor to set enable delay time. See Applications Information for details.", 14 TON (in) "Pin for external programming resistor to set switch minimum on time. See Applications Information for details.", 15 VCC (power), 16 GATE (out) "This is the gate drive to the external power MOSFET switch and has large dynamic currents flowing through it. Keep the trace to the MOSFET as short as possible to minimize electromagnetic radiation and voltage spikes. A (See Datasheet)"

## LT1725IS#TR
designator U?
General Purpose Isolated Flyback Controller, 16-pin SOP (S-16), -40 to 125 degC, Tape and Reel; Manufacturer: Linear Technology; PartNumber: LT1725IS#TR; Number of Outputs: 1; DatasheetVersion: Rev. A; PackageVersion: Rev. G, 05/2012; PackageReference: S-16; PackageDescription: 16-Pin Plastic Small Outline, Body 9.9 x 3.9 mm, Pitch 1.27 mm; Supplier 1: Digi-Key; Supplier Part Number 1: LT1725ISTR-ND; Packing: Tape and Reel; RoHS: FALSE; Mounting Technology: Surface Mount; ComponentLink1Description: Manufacturer URL; ComponentLink1URL: http://www.linear.com/; ComponentLink2Description: Datasheet; ComponentLink2URL: http://cds.linear.com/docs/en/datasheet/1725fa.pdf; ComponentLink3Description: Package Specification; ComponentLink3URL: http://cds.linear.com/docs/en/packaging/S16%2005-08-1610%20Rev%20G.pdf
footprint LT-S-16_N (SOP, 16-Leads, Body 10x4mm, Pitch 1.27mm, IPC Medium Density)
footprint LT-S-16_L (SOP, 16-Leads, Body 10x4mm, Pitch 1.27mm, IPC High Density)
footprint LT-S-16_M (SOP, 16-Leads, Body 10x4mm, Pitch 1.27mm, IPC Low Density)
pins: 1 PGND (power) "The power ground pin carries the GATE node discharge current. This is typically a current spike of several hundred mA with a duration of tens of nanoseconds. It should be connected directly to a good quality ground plane.", 2 ISENSE (in) "Pin to measure switch current with external sense resistor. The sense resistor should be of a noninductive construction as high speed performance is essential. Proper grounding technique is also required to avoid distortion (See Datasheet)", 3 SFST (in) "Pin for optional external capacitor to effect soft-start function. See Applications Information for details.", 4 ROCMP (in) "Input pin for optional external load compensation resistor. Use of this pin allows nominal compensation for nonzero output impedance in the power transformer secondary circuit, including secondary winding impedance, output (See Datasheet)", 5 RCMPC "Pin for external filter capacitor for optional load compensation function. A common 0.1uF ceramic capacitor will suffice for most applications. See Applications Information for further details.", 6 OSCAP "Pin for external timing capacitor to set oscillator switching frequency. See Applications Information for details.", 7 VC "This is the control voltage pin which is the output of the feedback amplifier and the input of the current comparator. Frequency compensation of the overall loop is effected in most cases by placing a capacitor between this (See Datasheet)", 8 FB (in) "Input pin for external “feedback” resistor divider. The ratio of this divider, times the internal bandgap (VBG) reference, times the effective output tothird winding transformer turns ratio is the primary determinant(See Datasheet)", 9 3VOUT (out) "Output pin for nominal 3V reference. This facilitates various user applications. This node is internally current limited for protection and is intended to drive either moderate capacitive loads of several hundred pF or less, (See Datasheet)", 10 UVLO (in), 11 SGND (power) "The signal ground pin is a clean ground. The internal reference, oscillator and feedback amplifier are referred to it. Keep the ground path connection to the FB pin, OSCAP capacitor and the VC compensation capacitor free of (See Datasheet)", 12 MINENAB (in) "Pin for external programming resistor to set minimum enable time. See Applications Information for details.", 13 ENDLY (in) "Pin for external programming resistor to set enable delay time. See Applications Information for details.", 14 TON (in) "Pin for external programming resistor to set switch minimum on time. See Applications Information for details.", 15 VCC (power), 16 GATE (out) "This is the gate drive to the external power MOSFET switch and has large dynamic currents flowing through it. Keep the trace to the MOSFET as short as possible to minimize electromagnetic radiation and voltage spikes. A (See Datasheet)"